# EAGLE library part SPISCREEN (library project_02)
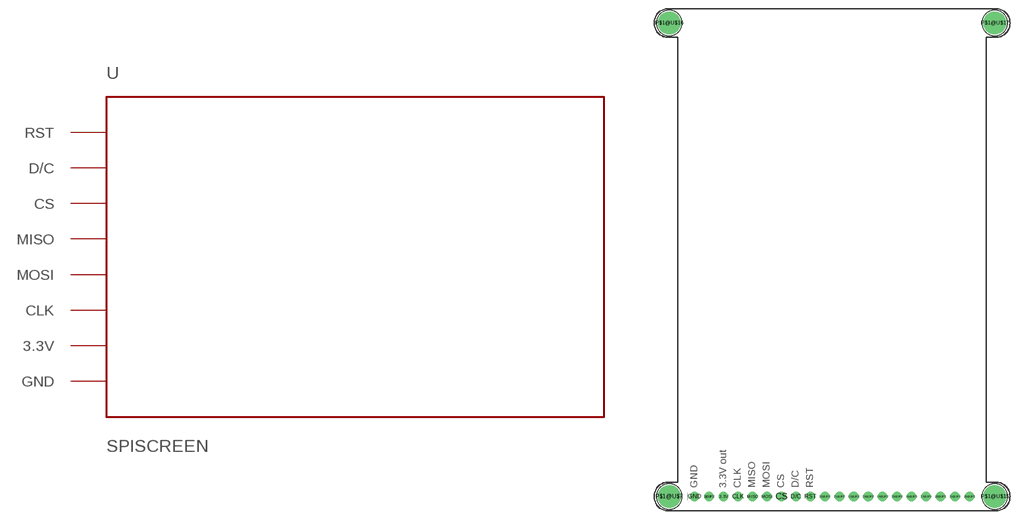
[diagram p2: symbol with the pads of SCREEN; footprint SCREEN]

Designator prefix U

## SPISCREEN  [SCREEN]
3.3V  3.3V
CLK  CLK
CS  CS
D/C  D/C
GND  GND
MISO  MISO
MOSI  MOSI
RST  RST

## Footprint SCREEN (pad centres in mm)
Package generated by make-group2pac.ulp from: C:/Users/Kevin Li/Downloads/Adafruit 3.2in TFT 320x240 (1).brd at: 12/10/2023 8:27 PM
drill 1 pad 1.676: 2@JP2 -21.59,-40.64; 3.3V -19.05,-40.64; 10@JP2 -1.27,-40.64; 11@JP2 1.27,-40.64; 12@JP2 3.81,-40.64; 13@JP2 6.35,-40.64; 14@JP2 8.89,-40.64; 15@JP2 11.43,-40.64; 16@JP2 13.97,-40.64; 17@JP2 16.51,-40.64; 18@JP2 19.05,-40.64; 19@JP2 21.59,-40.64; 20@JP2 24.13,-40.64; CLK -16.51,-40.64; CS -8.89,-40.64; D/C -6.35,-40.64; GND -24.13,-40.64; MISO -13.97,-40.64; MOSI -11.43,-40.64; RST -3.81,-40.64
drill 3 pad 3.6: P$1@U$7 -28.575,-40.64; P$1@U$15 28.575,-40.64; P$1@U$16 -28.575,42.545; P$1@U$17 28.575,42.545